# Altium schematic symbol library Current-to-Voltage-Schlib.SchLib: 8 symbols
Pins are listed as number, name and electrical type; pins without a type are passive.

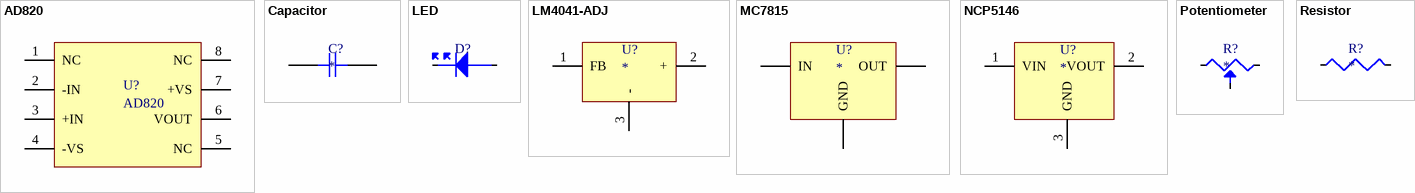
[diagram p0: symbols AD820 to Resistor]

## AD820
designator U?
pins: 1 NC, 2 -IN, 3 +IN, 4 -VS, 5 NC, 6 VOUT, 7 +VS, 8 NC

## Capacitor
designator C?
footprint C0805
footprint Model Name (Footprint not found)
pins: 1, 2

## LED
designator D?  (value not drawn)
pins: 1, 2

## LM4041-ADJ
designator U?
pins: 1 FB, 2 +, 3 -

## MC7815
designator U?
pins: 1 IN, 2 GND, 3 OUT

## NCP5146
designator U?
pins: 1 VIN, 2 VOUT, 3 GND

## Potentiometer
designator R?
pins: 25, 26, 27

## Resistor
designator R?
footprint R0805 - duplicate2
pins: 1, 2